# Altium schematic symbol library Conn_JST_S3B-PH-SM4-TB_LF_SN_eec.SchLib: 1 symbol
Pins are listed as number, name and electrical type; pins without a type are passive.

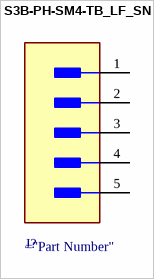
[diagram p0: symbol S3B-PH-SM4-TB_LF_SN]

## S3B-PH-SM4-TB_LF_SN
designator J?  (value not drawn)
pins: 1, 2, 3, 4 MNT 1, 5 MNT 2